# Altium integrated library MEM2051-00-195-00-A.IntLib: 1 symbol
Pins are listed as number, name and electrical type; pins without a type are passive.

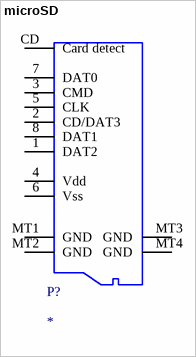
[diagram p0: symbol microSD]

## microSD
designator P?
MEM2051-00-195-00-A; link: https://www.mouser.es/ProductDetail/GCT/MEM2051-00-195-00-A?qs=sGAEpiMZZMv0NwlthflBi9LnylFvgcNPp6lYHypf%2Fi0%3D; datasheet: https://www.mouser.es/datasheet/2/837/MEM2051_spec-2327426.pdf; technical drawing: https://gct.co/files/drawings/mem2051.pdf
footprint microSD
pins: 1 DAT2, 2 CD/DAT3, 3 CMD, 4 Vdd, 5 CLK, 6 Vss, 7 DAT0, 8 DAT1, CD Card detect, MT1 GND, MT2 GND, MT3 GND, MT4 GND